# Altium footprint library 690368182672.PcbLib: 1 footprints
Each footprint in its own frame and in the unit in brackets; x right, y up, seen from the top. Pads: shape width x height; smd on the part's side, far side on the other; paste and mask are expansions set on the pad; w line width, h text height; cw(c..) or ccw(c..) is an arc to the next point about the centre after c.
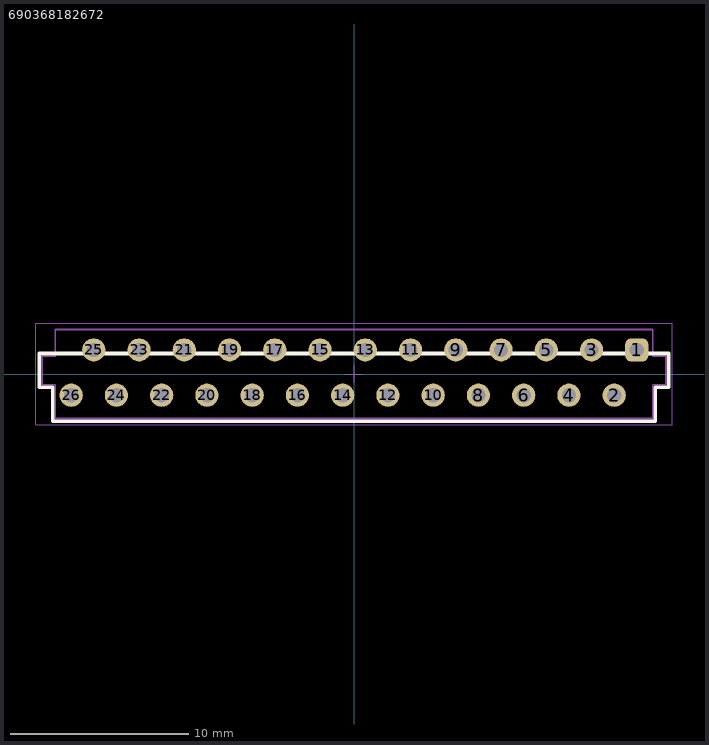
[diagram p0: the footprint, top view; thin cyan lines are the x and y axes]

## 690368182672 [mm]
pads (26):
  rrect50% 1.3x1.3 hole 0.8: 1(15.875,1.35)
  round 1.3 hole 0.8: 2(14.605,-1.19) 3(13.335,1.35) 4(12.065,-1.19) 5(10.795,1.35) 6(9.525,-1.19) 7(8.255,1.35) 8(6.985,-1.19) 9(5.715,1.35) 10(4.445,-1.19) 11(3.175,1.35) 12(1.905,-1.19) 13(0.635,1.35) 14(-0.635,-1.19) 15(-1.905,1.35) 16(-3.175,-1.19) 17(-4.445,1.35) 18(-5.715,-1.19) 19(-6.985,1.35) 20(-8.255,-1.19) 21(-9.525,1.35) 22(-10.795,-1.19) 23(-12.065,1.35) 24(-13.335,-1.19) 25(-14.605,1.35) 26(-15.875,-1.19)
Top Overlay:
  lines w0.2: -17.66,-0.75 -17.66,1.15 -16.92,1.15 16.92,1.15 17.66,1.15 17.66,-0.75 16.92,-0.75 16.92,-2.65 -16.92,-2.65 -16.92,-0.75 -17.66,-0.75
Top Designator:
  text ".Designator" at -7.498,-0.5 h1.5
Top Component Outline:
  lines w0.1: -17.51,-0.6 -17.51,1 -16.77,1 -16.77,2.5 16.77,2.5 16.77,1 17.51,1 17.51,-0.6 16.77,-0.6 16.77,-2.5 -16.77,-2.5 -16.77,-0.6 -17.51,-0.6
Top 3D Body:
  lines w0.1: -17.51,-0.6 -16.77,-0.6 -16.77,-2.5 16.77,-2.5 16.77,-0.6 17.51,-0.6 17.51,1 16.77,1 16.77,2.5 -16.77,2.5 -16.77,1 -17.51,1 -17.51,-0.6
Top Courtyard:
  lines w0.05: -0.5,0 0.5,0 ; 0,-0.5 0,0.5 ; -17.86,-2.85 17.86,-2.85 17.86,2.85 -17.86,2.85 -17.86,-2.85
3D body "690368182672.stp": height 5.85, standoff -3.05, extent -17.51,-2.5 17.51,2.5